# Altium footprint library HAB_ICs.PcbLib: 14 footprints
Each footprint in its own frame and in the unit in brackets; x right, y up, seen from the top. Pads: shape width x height; smd on the part's side, far side on the other; paste and mask are expansions set on the pad; w line width, h text height; cw(c..) or ccw(c..) is an arc to the next point about the centre after c.
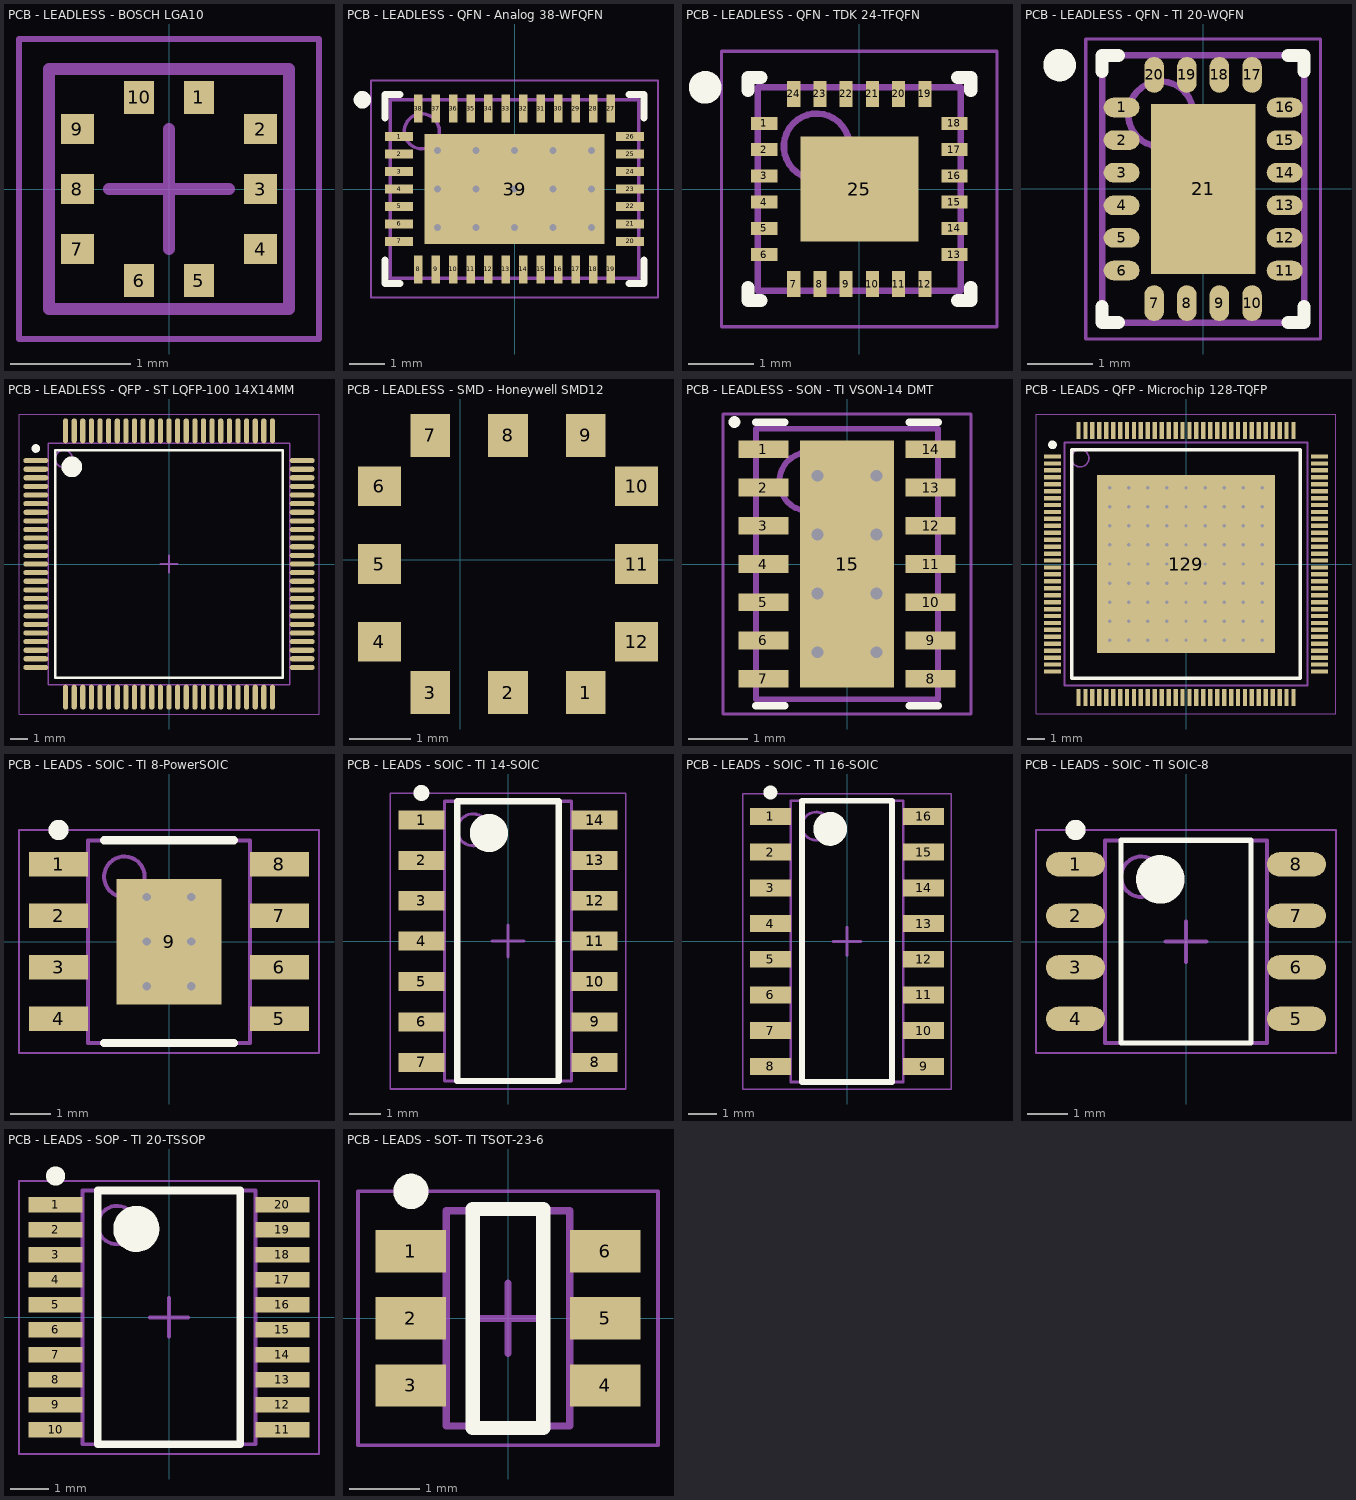
[diagram p0: the footprints below, top view; thin cyan lines are the x and y axes]

## PCB - LEADLESS - BOSCH LGA10 [mm]
height 0.75
pads (10):
  rect 0.25x0.275 smd: 1(0.25,0.763) 5(0.25,-0.763) 6(-0.25,-0.763) 10(-0.25,0.763)
  rect 0.275x0.25 smd: 2(0.763,0.5) 3(0.763,0) 4(0.763,-0.5) 7(-0.763,-0.5) 8(-0.763,0) 9(-0.763,0.5)
Mechanical 13:
  lines w0.1: -1,-1 1,-1 1,1 -1,1 -1,-1
Mechanical 15:
  lines w0.05: -1.25,-1.25 1.25,-1.25 1.25,1.25 -1.25,1.25 -1.25,-1.25
  lines w0.1: -0.5,0 0.5,0 ; 0,-0.5 0,0.5
3D body "BMP388.STEP": height 0.8, standoff 0, extent -1,-1 1,1

## PCB - LEADLESS - QFN - Analog 38-WFQFN [mm]
height 0.8
pads (39):
  rect 0.8x0.25 smd: 1(-3.3,1.5) 2(-3.3,1) 3(-3.3,0.5) 4(-3.3,0) 5(-3.3,-0.5) 6(-3.3,-1) 7(-3.3,-1.5) 20(3.3,-1.5) 21(3.3,-1) 22(3.3,-0.5) 23(3.3,0) 24(3.3,0.5) 25(3.3,1) 26(3.3,1.5)
  rect 0.25x0.8 smd: 8(-2.75,-2.3) 9(-2.25,-2.3) 10(-1.75,-2.3) 11(-1.25,-2.3) 12(-0.75,-2.3) 13(-0.25,-2.3) 14(0.25,-2.3) 15(0.75,-2.3) 16(1.25,-2.3) 17(1.75,-2.3) 18(2.25,-2.3) 19(2.75,-2.3) 27(2.75,2.3) 28(2.25,2.3) 29(1.75,2.3) 30(1.25,2.3) 31(0.75,2.3) 32(0.25,2.3) 33(-0.25,2.3) 34(-0.75,2.3) 35(-1.25,2.3) 36(-1.75,2.3) 37(-2.25,2.3) 38(-2.75,2.3)
  rect 5.15x3.15 smd: 39(0,0)
via -2.2,1.1 diameter 0.5 hole 0.2
via -1.1,1.1 diameter 0.5 hole 0.2
via 0,1.1 diameter 0.5 hole 0.2
via 1.1,1.1 diameter 0.5 hole 0.2
via 2.2,1.1 diameter 0.5 hole 0.2
via -2.2,0 diameter 0.5 hole 0.2
via -1.1,0 diameter 0.5 hole 0.2
via 0,0 diameter 0.5 hole 0.2
via 1.1,0 diameter 0.5 hole 0.2
via 2.2,0 diameter 0.5 hole 0.2
via -2.2,-1.1 diameter 0.5 hole 0.2
via -1.1,-1.1 diameter 0.5 hole 0.2
via 0,-1.1 diameter 0.5 hole 0.2
via 1.1,-1.1 diameter 0.5 hole 0.2
via 2.2,-1.1 diameter 0.5 hole 0.2
Top Overlay:
  circle w0.25: c-4.35,2.55 r0.125
  lines w0.2: -3.7,-2.025 -3.7,-2.7 -3.275,-2.7 ; -3.7,2.025 -3.7,2.7 -3.275,2.7 ; 3.275,-2.7 3.7,-2.7 3.7,-2.025 ; 3.275,2.7 3.7,2.7 3.7,2.025
Mechanical 13:
  circle w0.1: c-2.65,1.65 r0.5
  lines w0.1: -3.55,-2.55 -3.55,2.55 3.55,2.55 3.55,-2.55 -3.55,-2.55
Mechanical 15:
  lines w0.05: -4.1,-3.1 -4.1,3.1 4.1,3.1 4.1,-3.1 -4.1,-3.1
  lines w0.1: -0.5,0 0.5,0 ; 0,-0.5 0,0.5
3D body "QFN-38_UHF_LIT.step": height 0.8, standoff 0, extent -3.55,-2.55 3.55,2.55

## PCB - LEADLESS - QFN - TDK 24-TFQFN [mm]
height 1.05
pads (25):
  rect 0.4x0.2 smd: 1(-1.45,1) 2(-1.45,0.6) 3(-1.45,0.2) 4(-1.45,-0.2) 5(-1.45,-0.6) 6(-1.45,-1) 13(1.45,-1) 14(1.45,-0.6) 15(1.45,-0.2) 16(1.45,0.2) 17(1.45,0.6) 18(1.45,1)
  rect 0.2x0.4 smd: 7(-1,-1.45) 8(-0.6,-1.45) 9(-0.2,-1.45) 10(0.2,-1.45) 11(0.6,-1.45) 12(1,-1.45) 19(1,1.45) 20(0.6,1.45) 21(0.2,1.45) 22(-0.2,1.45) 23(-0.6,1.45) 24(-1,1.45)
  rect 1.8x1.6 smd: 25(0,0)
Top Overlay:
  circle w0.25: c-2.35,1.55 r0.125
  lines w0.2: -1.7,-1.5 -1.7,-1.7 -1.5,-1.7 ; -1.7,1.5 -1.7,1.7 -1.5,1.7 ; 1.5,-1.7 1.7,-1.7 1.7,-1.5 ; 1.5,1.7 1.7,1.7 1.7,1.5
Mechanical 13:
  circle w0.1: c-0.65,0.65 r0.5
  lines w0.1: -1.55,-1.55 1.55,-1.55 1.55,1.55 -1.55,1.55 -1.55,-1.55
Mechanical 15:
  lines w0.05: -2.1,-2.1 2.1,-2.1 2.1,2.1 -2.1,2.1 -2.1,-2.1
  lines w0.1: -0.5,0 0.5,0 ; 0,-0.5 0,0.5
3D body "ICM-20948.STEP": height 1, standoff -0.05, extent -1.5,-1.5 1.5,1.5

## PCB - LEADLESS - QFN - TI 20-WQFN [mm] "PQFN, 20-Leads, Body 3.00x4.00mm, Pitch 0.50mm, Thermal Pad 1.60x2.60mm, IPC Medium Density"
height 0.8
pads (21):
  oval 0.55x0.3 smd: 1(-1.25,1.25) 2(-1.25,0.75) 3(-1.25,0.25) 4(-1.25,-0.25) 5(-1.25,-0.75) 6(-1.25,-1.25) 11(1.25,-1.25) 12(1.25,-0.75) 13(1.25,-0.25) 14(1.25,0.25) 15(1.25,0.75) 16(1.25,1.25)
  oval 0.3x0.55 smd: 7(-0.75,-1.75) 8(-0.25,-1.75) 9(0.25,-1.75) 10(0.75,-1.75) 17(0.75,1.75) 18(0.25,1.75) 19(-0.25,1.75) 20(-0.75,1.75)
  rect 1.6x2.6 smd: 21(0,0)
Top Overlay:
  circle w0.25: c-2.2,1.9 r0.125
  lines w0.2: -1.55,-1.8 -1.55,-2.05 -1.3,-2.05 ; -1.55,1.8 -1.55,2.05 -1.3,2.05 ; 1.3,-2.05 1.55,-2.05 1.55,-1.8 ; 1.3,2.05 1.55,2.05 1.55,1.8
Mechanical 13:
  circle w0.1: c-0.65,1.15 r0.5
  lines w0.1: -1.55,-2.05 1.55,-2.05 1.55,2.05 -1.55,2.05 -1.55,-2.05
Mechanical 15:
  lines w0.05: -1.8,-2.3 1.8,-2.3 1.8,2.3 -1.8,2.3 -1.8,-2.3
  lines w0.1: -0.5,0 0.5,0 ; 0,-0.5 0,0.5
3D body "RVC0020A.stp": height 0.8, standoff 0, extent -1.5,-2 1.5,2

## PCB - LEADLESS - QFP - ST LQFP-100 14X14MM [mm] "LQFP, 100-Leads, Body 14.00x14.00mm, Pitch 0.50mm, IPC Medium Density"
height 1.6
pads (100):
  oval 1.45x0.3 smd: 1(-7.725,6) 2(-7.725,5.5) 3(-7.725,5) 4(-7.725,4.5) 5(-7.725,4) 6(-7.725,3.5) 7(-7.725,3) 8(-7.725,2.5) 9(-7.725,2) 10(-7.725,1.5) 11(-7.725,1) 12(-7.725,0.5) 13(-7.725,0) 14(-7.725,-0.5) 15(-7.725,-1) 16(-7.725,-1.5) 17(-7.725,-2) 18(-7.725,-2.5) 19(-7.725,-3) 20(-7.725,-3.5) 21(-7.725,-4) 22(-7.725,-4.5) 23(-7.725,-5) 24(-7.725,-5.5) 25(-7.725,-6) 51(7.725,-6) 52(7.725,-5.5) 53(7.725,-5) 54(7.725,-4.5) 55(7.725,-4) 56(7.725,-3.5) 57(7.725,-3) 58(7.725,-2.5) 59(7.725,-2) 60(7.725,-1.5) 61(7.725,-1) 62(7.725,-0.5) 63(7.725,0) 64(7.725,0.5) 65(7.725,1) 66(7.725,1.5) 67(7.725,2) 68(7.725,2.5) 69(7.725,3) 70(7.725,3.5) 71(7.725,4) 72(7.725,4.5) 73(7.725,5) 74(7.725,5.5) 75(7.725,6)
  oval 0.3x1.45 smd: 26(-6,-7.725) 27(-5.5,-7.725) 28(-5,-7.725) 29(-4.5,-7.725) 30(-4,-7.725) 31(-3.5,-7.725) 32(-3,-7.725) 33(-2.5,-7.725) 34(-2,-7.725) 35(-1.5,-7.725) 36(-1,-7.725) 37(-0.5,-7.725) 38(0,-7.725) 39(0.5,-7.725) 40(1,-7.725) 41(1.5,-7.725) 42(2,-7.725) 43(2.5,-7.725) 44(3,-7.725) 45(3.5,-7.725) 46(4,-7.725) 47(4.5,-7.725) 48(5,-7.725) 49(5.5,-7.725) 50(6,-7.725) 76(6,7.725) 77(5.5,7.725) 78(5,7.725) 79(4.5,7.725) 80(4,7.725) 81(3.5,7.725) 82(3,7.725) 83(2.5,7.725) 84(2,7.725) 85(1.5,7.725) 86(1,7.725) 87(0.5,7.725) 88(0,7.725) 89(-0.5,7.725) 90(-1,7.725) 91(-1.5,7.725) 92(-2,7.725) 93(-2.5,7.725) 94(-3,7.725) 95(-3.5,7.725) 96(-4,7.725) 97(-4.5,7.725) 98(-5,7.725) 99(-5.5,7.725) 100(-6,7.725)
Top Overlay:
  circle w0.25: c-7.725,6.7 r0.125
  circle w0.6: c-5.637,5.637 r0.3
  lines w0.127: -6.6,-6.6 -6.6,6.6 6.6,6.6 6.6,-6.6 -6.6,-6.6
Mechanical 13:
  circle w0.1: c-6.1,6.1 r0.5
  lines w0.1: -7,-7 -7,7 7,7 7,-7 -7,-7
Mechanical 15:
  lines w0.05: -8.7,-8.7 -8.7,8.7 8.7,8.7 8.7,-8.7 -8.7,-8.7
  lines w0.1: -0.5,0 0.5,0 ; 0,-0.5 0,0.5
3D body "STM32F407VGT6.STEP": height 1.58, standoff -0.02, extent -8,-8 8,8

## PCB - LEADLESS - SMD - Honeywell SMD12 [mm]
pads (12):
  rect 0.65x0.7 smd: 1(2.05,-2.17) 2(0.78,-2.17) 3(-0.49,-2.17) 7(-0.49,2.03) 8(0.78,2.03) 9(2.05,2.03)
  rect 0.7x0.65 smd mask+0.102: 4(-1.32,-1.34)
  rect 0.7x0.65 smd: 5(-1.32,-0.07) 6(-1.32,1.2) 10(2.88,1.2) 11(2.88,-0.07) 12(2.88,-1.34)
3D body "mpr-series-long-port-absolute-cad-model.stp": height 5.82, standoff 0, extent -1.669,-2.52 3.221,2.369

## PCB - LEADLESS - SON - TI VSON-14 DMT [mm] "SON, 14-Leads, Body 4.50x3.00mm, Pitch 0.65mm, Thermal Pad 4.20x1.59mm, IPC Medium Density"
height 0.9
pads (15):
  rect 0.85x0.3 smd: 1(-1.42,1.95) 2(-1.42,1.3) 3(-1.42,0.65) 4(-1.42,0) 5(-1.42,-0.65) 6(-1.42,-1.3) 7(-1.42,-1.95) 8(1.42,-1.95) 9(1.42,-1.3) 10(1.42,-0.65) 11(1.42,0) 12(1.42,0.65) 13(1.42,1.3) 14(1.42,1.95)
  rect 1.59x4.2 smd: 15(0,0)
via -0.5,1.5 diameter 0.5 hole 0.2
via 0.5,1.5 diameter 0.5 hole 0.2
via -0.5,0.5 diameter 0.5 hole 0.2
via 0.5,0.5 diameter 0.5 hole 0.2
via -0.5,-0.5 diameter 0.5 hole 0.2
via 0.5,-0.5 diameter 0.5 hole 0.2
via -0.5,-1.5 diameter 0.5 hole 0.2
via 0.5,-1.5 diameter 0.5 hole 0.2
Top Overlay:
  circle w0.1: c-1.913,2.414 r0.05
  lines w0.127: -1.55,-2.413 -1.058,-2.413 ; -1.55,2.414 -1.058,2.414 ; 1.058,-2.413 1.55,-2.413 ; 1.058,2.414 1.55,2.414
Mechanical 13:
  circle w0.1: c-0.65,1.4 r0.5
  lines w0.1: -1.55,-2.3 -1.55,2.3 1.55,2.3 1.55,-2.3 -1.55,-2.3
Mechanical 15:
  lines w0.05: -2.105,-2.55 -2.105,2.55 2.105,2.55 2.105,-2.55 -2.105,-2.55
  lines w0.1: -0.5,0 0.5,0 ; 0,-0.5 0,0.5
3D body "DMT0014A.stp": height 0.9, standoff 0, extent -1.5,-2.25 1.5,2.25

## PCB - LEADS - QFP - Microchip 128-TQFP [mm]
height 1.2
pads (129):
  rect 1x0.25 smd: 1(-7.7,6.2) 2(-7.7,5.8) 3(-7.7,5.4) 4(-7.7,5) 5(-7.7,4.6) 6(-7.7,4.2) 7(-7.7,3.8) 8(-7.7,3.4) 9(-7.7,3) 10(-7.7,2.6) 11(-7.7,2.2) 12(-7.7,1.8) 13(-7.7,1.4) 14(-7.7,1) 15(-7.7,0.6) 16(-7.7,0.2) 17(-7.7,-0.2) 18(-7.7,-0.6) 19(-7.7,-1) 20(-7.7,-1.4) 21(-7.7,-1.8) 22(-7.7,-2.2) 23(-7.7,-2.6) 24(-7.7,-3) 25(-7.7,-3.4) 26(-7.7,-3.8) 27(-7.7,-4.2) 28(-7.7,-4.6) 29(-7.7,-5) 30(-7.7,-5.4) 31(-7.7,-5.8) 32(-7.7,-6.2) 65(7.7,-6.2) 66(7.7,-5.8) 67(7.7,-5.4) 68(7.7,-5) 69(7.7,-4.6) 70(7.7,-4.2) 71(7.7,-3.8) 72(7.7,-3.4) 73(7.7,-3) 74(7.7,-2.6) 75(7.7,-2.2) 76(7.7,-1.8) 77(7.7,-1.4) 78(7.7,-1) 79(7.7,-0.6) 80(7.7,-0.2) 81(7.7,0.2) 82(7.7,0.6) 83(7.7,1) 84(7.7,1.4) 85(7.7,1.8) 86(7.7,2.2) 87(7.7,2.6) 88(7.7,3) 89(7.7,3.4) 90(7.7,3.8) 91(7.7,4.2) 92(7.7,4.6) 93(7.7,5) 94(7.7,5.4) 95(7.7,5.8) 96(7.7,6.2)
  rect 0.25x1 smd: 33(-6.2,-7.7) 34(-5.8,-7.7) 35(-5.4,-7.7) 36(-5,-7.7) 37(-4.6,-7.7) 38(-4.2,-7.7) 39(-3.8,-7.7) 40(-3.4,-7.7) 41(-3,-7.7) 42(-2.6,-7.7) 43(-2.2,-7.7) 44(-1.8,-7.7) 45(-1.4,-7.7) 46(-1,-7.7) 47(-0.6,-7.7) 48(-0.2,-7.7) 49(0.2,-7.7) 50(0.6,-7.7) 51(1,-7.7) 52(1.4,-7.7) 53(1.8,-7.7) 54(2.2,-7.7) 55(2.6,-7.7) 56(3,-7.7) 57(3.4,-7.7) 58(3.8,-7.7) 59(4.2,-7.7) 60(4.6,-7.7) 61(5,-7.7) 62(5.4,-7.7) 63(5.8,-7.7) 64(6.2,-7.7) 97(6.2,7.7) 98(5.8,7.7) 99(5.4,7.7) 100(5,7.7) 101(4.6,7.7) 102(4.2,7.7) 103(3.8,7.7) 104(3.4,7.7) 105(3,7.7) 106(2.6,7.7) 107(2.2,7.7) 108(1.8,7.7) 109(1.4,7.7) 110(1,7.7) 111(0.6,7.7) 112(0.2,7.7) 113(-0.2,7.7) 114(-0.6,7.7) 115(-1,7.7) 116(-1.4,7.7) 117(-1.8,7.7) 118(-2.2,7.7) 119(-2.6,7.7) 120(-3,7.7) 121(-3.4,7.7) 122(-3.8,7.7) 123(-4.2,7.7) 124(-4.6,7.7) 125(-5,7.7) 126(-5.4,7.7) 127(-5.8,7.7) 128(-6.2,7.7)
  rect 10.25x10.25 smd: 129(0,0)
via 4.4,-4.4 diameter 0.5 hole 0.2
via 3.3,-4.4 diameter 0.5 hole 0.2
via 2.2,-4.4 diameter 0.5 hole 0.2
via 1.1,-4.4 diameter 0.5 hole 0.2
via 0,-4.4 diameter 0.5 hole 0.2
via -1.1,-4.4 diameter 0.5 hole 0.2
via -2.2,-4.4 diameter 0.5 hole 0.2
via -3.3,-4.4 diameter 0.5 hole 0.2
via -4.4,-4.4 diameter 0.5 hole 0.2
via 4.4,-3.3 diameter 0.5 hole 0.2
via 3.3,-3.3 diameter 0.5 hole 0.2
via 2.2,-3.3 diameter 0.5 hole 0.2
via 1.1,-3.3 diameter 0.5 hole 0.2
via 0,-3.3 diameter 0.5 hole 0.2
via -1.1,-3.3 diameter 0.5 hole 0.2
via -2.2,-3.3 diameter 0.5 hole 0.2
via -3.3,-3.3 diameter 0.5 hole 0.2
via -4.4,-3.3 diameter 0.5 hole 0.2
via 4.4,-2.2 diameter 0.5 hole 0.2
via 3.3,-2.2 diameter 0.5 hole 0.2
via 2.2,-2.2 diameter 0.5 hole 0.2
via 1.1,-2.2 diameter 0.5 hole 0.2
via 0,-2.2 diameter 0.5 hole 0.2
via -1.1,-2.2 diameter 0.5 hole 0.2
via -2.2,-2.2 diameter 0.5 hole 0.2
via -3.3,-2.2 diameter 0.5 hole 0.2
via -4.4,-2.2 diameter 0.5 hole 0.2
via 4.4,-1.1 diameter 0.5 hole 0.2
via 3.3,-1.1 diameter 0.5 hole 0.2
via 2.2,-1.1 diameter 0.5 hole 0.2
via 1.1,-1.1 diameter 0.5 hole 0.2
via 0,-1.1 diameter 0.5 hole 0.2
via -1.1,-1.1 diameter 0.5 hole 0.2
via -2.2,-1.1 diameter 0.5 hole 0.2
via -3.3,-1.1 diameter 0.5 hole 0.2
via -4.4,-1.1 diameter 0.5 hole 0.2
via 4.4,0 diameter 0.5 hole 0.2
via 3.3,0 diameter 0.5 hole 0.2
via 2.2,0 diameter 0.5 hole 0.2
via 1.1,0 diameter 0.5 hole 0.2
via 0,0 diameter 0.5 hole 0.2
via -1.1,0 diameter 0.5 hole 0.2
via -2.2,0 diameter 0.5 hole 0.2
via -3.3,0 diameter 0.5 hole 0.2
via -4.4,0 diameter 0.5 hole 0.2
via 4.4,1.1 diameter 0.5 hole 0.2
via 3.3,1.1 diameter 0.5 hole 0.2
via 2.2,1.1 diameter 0.5 hole 0.2
via 1.1,1.1 diameter 0.5 hole 0.2
via 0,1.1 diameter 0.5 hole 0.2
via -1.1,1.1 diameter 0.5 hole 0.2
via -2.2,1.1 diameter 0.5 hole 0.2
via -3.3,1.1 diameter 0.5 hole 0.2
via -4.4,1.1 diameter 0.5 hole 0.2
via 4.4,2.2 diameter 0.5 hole 0.2
via 3.3,2.2 diameter 0.5 hole 0.2
via 2.2,2.2 diameter 0.5 hole 0.2
via 1.1,2.2 diameter 0.5 hole 0.2
via 0,2.2 diameter 0.5 hole 0.2
via -1.1,2.2 diameter 0.5 hole 0.2
via -2.2,2.2 diameter 0.5 hole 0.2
via -3.3,2.2 diameter 0.5 hole 0.2
via -4.4,2.2 diameter 0.5 hole 0.2
via 4.4,3.3 diameter 0.5 hole 0.2
via 3.3,3.3 diameter 0.5 hole 0.2
via 2.2,3.3 diameter 0.5 hole 0.2
via 1.1,3.3 diameter 0.5 hole 0.2
via 0,3.3 diameter 0.5 hole 0.2
via -1.1,3.3 diameter 0.5 hole 0.2
via -2.2,3.3 diameter 0.5 hole 0.2
via -3.3,3.3 diameter 0.5 hole 0.2
via -4.4,3.3 diameter 0.5 hole 0.2
via 4.4,4.4 diameter 0.5 hole 0.2
via 3.3,4.4 diameter 0.5 hole 0.2
via 2.2,4.4 diameter 0.5 hole 0.2
via 1.1,4.4 diameter 0.5 hole 0.2
via 0,4.4 diameter 0.5 hole 0.2
via -1.1,4.4 diameter 0.5 hole 0.2
via -2.2,4.4 diameter 0.5 hole 0.2
via -3.3,4.4 diameter 0.5 hole 0.2
via -4.4,4.4 diameter 0.5 hole 0.2
Top Overlay:
  circle w0.25: c-7.7,6.875 r0.125
  lines w0.2: -6.6,-6.6 6.6,-6.6 6.6,6.6 -6.6,6.6 -6.6,-6.6
Mechanical 13:
  circle w0.1: c-6.1,6.1 r0.5
  lines w0.1: -7,-7 7,-7 7,7 -7,7 -7,-7
Mechanical 15:
  lines w0.05: -8.65,-8.65 8.65,-8.65 8.65,8.65 -8.65,8.65 -8.65,-8.65
  lines w0.1: -0.5,0 0.5,0 ; 0,-0.5 0,0.5
3D body "TQFP128_EP_TX_MCH.step": height 1.2, standoff 0, extent -8.001,-8.001 8.001,8.001

## PCB - LEADS - SOIC - TI 8-PowerSOIC [mm]
height 1.7
pads (9):
  rect 1.45x0.6 smd: 1(-2.725,1.905) 2(-2.725,0.635) 3(-2.725,-0.635) 4(-2.725,-1.905) 5(2.725,-1.905) 6(2.725,-0.635) 7(2.725,0.635) 8(2.725,1.905)
  rect 2.6x3.1 smd: 9(0,0)
via -0.55,1.1 diameter 0.5 hole 0.2
via 0.55,1.1 diameter 0.5 hole 0.2
via -0.55,0 diameter 0.5 hole 0.2
via 0.55,0 diameter 0.5 hole 0.2
via -0.55,-1.1 diameter 0.5 hole 0.2
via 0.55,-1.1 diameter 0.5 hole 0.2
Top Overlay:
  circle w0.25: c-2.725,2.755 r0.125
  lines w0.2: -1.6,-2.5 1.6,-2.5 ; -1.6,2.5 1.6,2.5
Mechanical 13:
  circle w0.1: c-1.1,1.6 r0.5
  lines w0.1: -2,-2.5 -2,2.5 2,2.5 2,-2.5 -2,-2.5
Mechanical 15:
  lines w0.05: -3.7,-2.75 -3.7,2.75 3.7,2.75 3.7,-2.75 -3.7,-2.75
  lines w0.1: -0.5,0 0.5,0 ; 0,-0.5 0,0.5
3D body "IC8_LMR33640ADDAR_TEX.step": height 1.7, standoff -0.05, extent -3.1,-2.502 3.1,2.502

## PCB - LEADS - SOIC - TI 14-SOIC [mm]
height 1.75
pads (14):
  rect 1.45x0.6 smd: 1(-2.725,3.81) 2(-2.725,2.54) 3(-2.725,1.27) 4(-2.725,0) 5(-2.725,-1.27) 6(-2.725,-2.54) 7(-2.725,-3.81) 8(2.725,-3.81) 9(2.725,-2.54) 10(2.725,-1.27) 11(2.725,0) 12(2.725,1.27) 13(2.725,2.54) 14(2.725,3.81)
Top Overlay:
  circle w0.6: c-0.6,3.4 r0.3
  circle w0.25: c-2.725,4.66 r0.125
  lines w0.2: -1.6,-4.4 1.6,-4.4 1.6,4.4 -1.6,4.4 -1.6,-4.4
Mechanical 13:
  circle w0.1: c-1.1,3.5 r0.5
  lines w0.1: -2,-4.4 2,-4.4 2,4.4 -2,4.4 -2,-4.4
Mechanical 15:
  lines w0.05: -3.7,-4.65 3.7,-4.65 3.7,4.65 -3.7,4.65 -3.7,-4.65
  lines w0.1: -0.5,0 0.5,0 ; 0,-0.5 0,0.5
3D body "TCAN1043DQ1.STEP": height 1.75, standoff 0, extent -3,-4.325 3,4.325

## PCB - LEADS - SOIC - TI 16-SOIC [mm] "SOIC, 16-Leads, Body 9.90x3.90mm, Pitch 1.27mm, IPC Medium Density"
height 1.75
pads (16):
  rect 1.45x0.6 smd: 1(-2.725,4.445) 2(-2.725,3.175) 3(-2.725,1.905) 4(-2.725,0.635) 5(-2.725,-0.635) 6(-2.725,-1.905) 7(-2.725,-3.175) 8(-2.725,-4.445) 9(2.725,-4.445) 10(2.725,-3.175) 11(2.725,-1.905) 12(2.725,-0.635) 13(2.725,0.635) 14(2.725,1.905) 15(2.725,3.175) 16(2.725,4.445)
Top Overlay:
  circle w0.6: c-0.6,4 r0.3
  circle w0.25: c-2.725,5.295 r0.125
  lines w0.2: -1.6,-5 1.6,-5 1.6,5 -1.6,5 -1.6,-5
Mechanical 13:
  circle w0.1: c-1.1,4.1 r0.5
  lines w0.1: -2,-5 2,-5 2,5 -2,5 -2,-5
Mechanical 15:
  lines w0.05: -3.7,-5.25 3.7,-5.25 3.7,5.25 -3.7,5.25 -3.7,-5.25
  lines w0.1: -0.5,0 0.5,0 ; 0,-0.5 0,0.5
3D body "D0016A.stp": height 1.75, standoff 0, extent -3.013,-4.95 3.013,4.95

## PCB - LEADS - SOIC - TI SOIC-8 [mm] "SOIC, 8-Leads, Body 4.91x3.90mm, Pitch 1.27mm, IPC Medium Density"
height 1.75
pads (8):
  oval 1.45x0.6 smd: 1(-2.725,1.905) 2(-2.725,0.635) 3(-2.725,-0.635) 4(-2.725,-1.905) 5(2.725,-1.905) 6(2.725,-0.635) 7(2.725,0.635) 8(2.725,1.905)
Top Overlay:
  circle w0.6: c-0.637,1.536 r0.3
  circle w0.25: c-2.725,2.755 r0.125
  lines w0.127: -1.6,-2.5 1.6,-2.5 1.6,2.5 -1.6,2.5 -1.6,-2.5
Mechanical 13:
  circle w0.1: c-1.1,1.6 r0.5
  lines w0.1: -2,-2.5 2,-2.5 2,2.5 -2,2.5 -2,-2.5
Mechanical 15:
  lines w0.05: -3.7,-2.75 3.7,-2.75 3.7,2.75 -3.7,2.75 -3.7,-2.75
  lines w0.1: -0.5,0 0.5,0 ; 0,-0.5 0,0.5
3D body "D0008A.stp": height 1.63, standoff 0, extent -3.011,-2.451 3.011,2.451

## PCB - LEADS - SOP - TI 20-TSSOP [mm]
height 1.2
pads (20):
  rect 1.4x0.4 smd: 1(-2.95,2.925) 2(-2.95,2.275) 3(-2.95,1.625) 4(-2.95,0.975) 5(-2.95,0.325) 6(-2.95,-0.325) 7(-2.95,-0.975) 8(-2.95,-1.625) 9(-2.95,-2.275) 10(-2.95,-2.925) 11(2.95,-2.925) 12(2.95,-2.275) 13(2.95,-1.625) 14(2.95,-0.975) 15(2.95,-0.325) 16(2.95,0.325) 17(2.95,0.975) 18(2.95,1.625) 19(2.95,2.275) 20(2.95,2.925)
Top Overlay:
  circle w0.25: c-2.95,3.675 r0.125
  circle w0.6: c-0.85,2.3 r0.3
  lines w0.2: -1.85,-3.3 -1.85,3.3 1.85,3.3 1.85,-3.3 -1.85,-3.3
Mechanical 13:
  circle w0.1: c-1.35,2.4 r0.5
  lines w0.1: -2.25,-3.3 -2.25,3.3 2.25,3.3 2.25,-3.3 -2.25,-3.3
Mechanical 15:
  lines w0.05: -3.9,-3.55 -3.9,3.55 3.9,3.55 3.9,-3.55 -3.9,-3.55
  lines w0.1: -0.5,0 0.5,0 ; 0,-0.5 0,0.5
3D body "BQ7692000PW.STEP": height 1.2, standoff 0, extent -3.2,-3.25 3.2,3.25

## PCB - LEADS - SOT- TI TSOT-23-6 [mm]
height 1.1
pads (6):
  rect 1x0.6 smd: 1(-1.375,0.95) 2(-1.375,0) 3(-1.375,-0.95) 4(1.375,-0.95) 5(1.375,0) 6(1.375,0.95)
Top Overlay:
  circle w0.25: c-1.375,1.8 r0.125
  lines w0.2: -0.5,-1.55 0.5,-1.55 0.5,1.55 -0.5,1.55 -0.5,-1.55
Mechanical 13:
  lines w0.1: -0.875,-1.525 -0.875,1.525 0.875,1.525 0.875,-1.525 -0.875,-1.525
Mechanical 15:
  lines w0.05: -2.125,-1.8 -2.125,1.8 2.125,1.8 2.125,-1.8 -2.125,-1.8
  lines w0.1: -0.5,0 0.5,0 ; 0,-0.5 0,0.5
3D body "TLV62569PDDCT.STEP": height 1.1, standoff 0, extent -1.4,-1.45 1.4,1.45